# Altium schematic symbol library 22-23-2101.SchLib: 1 symbol
Pins are listed as number, name and electrical type; pins without a type are passive.

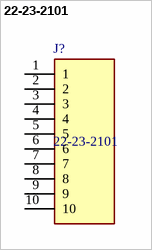
[diagram p0: symbol 22-23-2101]

## 22-23-2101
designator J?
2.54mm,header,KK,vert,Sn,frictn lock,10w Molex KK 254 Series, Series Number 6373, 2.54mm Pitch 10 Way 1 Row Straight PCB Header, Solder Termination, 4A; Geometry.Height: 11.05mm; Manufacturer_Name: Molex; Manufacturer_Part_Number: 22-23-2101; Mouser Part Number: 538-22-23-2101; Mouser Price/Stock: https://www.mouser.co.uk/ProductDetail/Molex/22-23-2101?qs=ekUqD6al18JrLI5%2F9qV%252BVA%3D%3D; Arrow Part Number: *; Arrow Price/Stock: *; Datasheet Link: http://www.molex.com/pdm_docs/sd/022232101_sd.pdf
footprint SHDR10W87P0X254_1X10_2525X635X1105P
pins: 1, 2, 3, 4, 5, 6, 7, 8, 9, 10